# EAGLE library part AVRXDA32 (library microchip-special)
The AVR128DA28/32/48/64 microcontrollers of the AVR® DA family are using the AVR CPU with hardware multiplier, running at up to 24 MHz, with 128 KB of Flash, 16 KB of SRAM, and 512B of EEPROM in 28-, 32-, 48- or 64-pin packages. The AVR® DA family uses the latest technologies from Microchip Technology, with a flexible and low-power architecture including Event System, intelligent analog features, advanced digital peripherals and Peripheral Touch Controller (PTC).
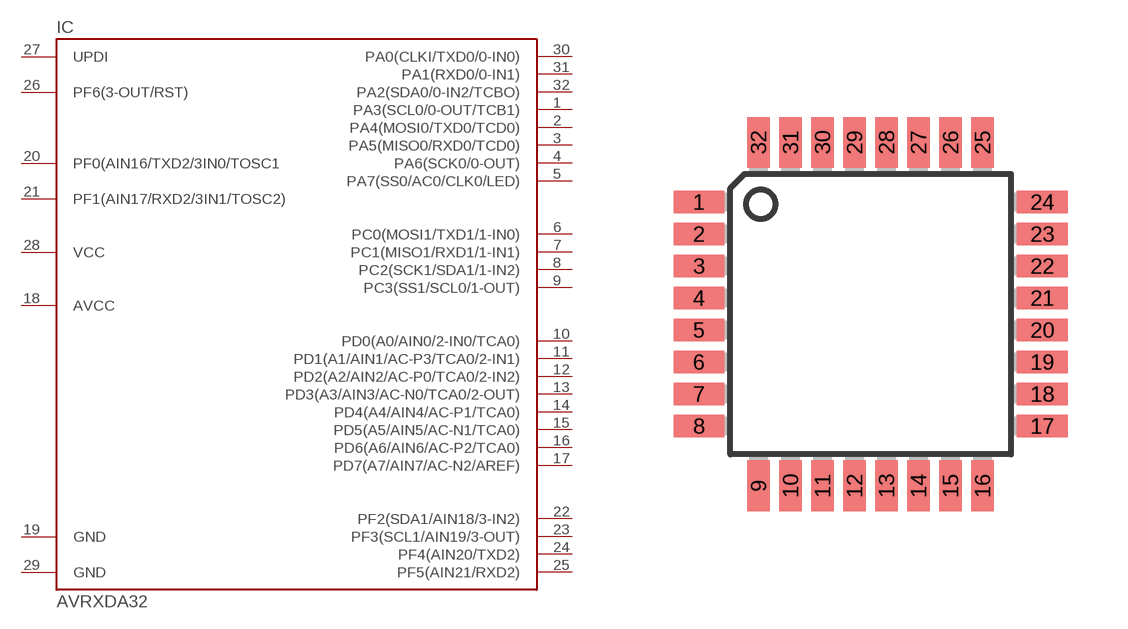
[diagram p20: symbol with the pads of TQFP32-08; footprint TQFP32-08]

Designator prefix IC

## AVRXDA32TQFP  [TQFP32-08]
1  PA3(SCL0/0-OUT/TCB1)
2  PA4(MOSI0/TXD0/TCD0)
3  PA5(MISO0/RXD0/TCD0)
4  PA6(SCK0/0-OUT)
5  PA7(SS0/AC0/CLK0/LED)
6  PC0(MOSI1/TXD1/1-IN0)
7  PC1(MISO1/RXD1/1-IN1)
8  PC2(SCK1/SDA1/1-IN2)
9  PC3(SS1/SCL0/1-OUT)
10  PD0(A0/AIN0/2-IN0/TCA0)
11  PD1(A1/AIN1/AC-P3/TCA0/2-IN1)
12  PD2(A2/AIN2/AC-P0/TCA0/2-IN2)
13  PD3(A3/AIN3/AC-N0/TCA0/2-OUT)
14  PD4(A4/AIN4/AC-P1/TCA0)
15  PD5(A5/AIN5/AC-N1/TCA0)
16  PD6(A6/AIN6/AC-P2/TCA0)
17  PD7(A7/AIN7/AC-N2/AREF)
18  AVCC  pas
19  GND  pwr
20  PF0(AIN16/TXD2/3IN0/TOSC1
21  PF1(AIN17/RXD2/3IN1/TOSC2)
22  PF2(SDA1/AIN18/3-IN2)
23  PF3(SCL1/AIN19/3-OUT)
24  PF4(AIN20/TXD2)
25  PF5(AIN21/RXD2)
26  PF6(3-OUT/RST)
27  UPDI
28  VCC  pwr
29  GND  pwr
30  PA0(CLKI/TXD0/0-IN0)
31  PA1(RXD0/0-IN1)
32  PA2(SDA0/0-IN2/TCBO)

## Footprint TQFP32-08 (pad centres in mm)
Thin Plasic Quad Flat Package Grid 0.8 mm
smd 1.27 x 0.559: 1 -4.293,2.8; 2 -4.293,2; 3 -4.293,1.2; 4 -4.293,0.4; 5 -4.293,-0.4; 6 -4.293,-1.2; 7 -4.293,-2; 8 -4.293,-2.8; 17 4.293,-2.8; 18 4.293,-2; 19 4.293,-1.2; 20 4.293,-0.4; 21 4.293,0.4; 22 4.293,1.2; 23 4.293,2; 24 4.293,2.8
smd 0.559 x 1.27: 9 -2.8,-4.293; 10 -2,-4.293; 11 -1.2,-4.293; 12 -0.4,-4.293; 13 0.4,-4.293; 14 1.2,-4.293; 15 2,-4.293; 16 2.8,-4.293; 25 2.8,4.293; 26 2,4.293; 27 1.2,4.293; 28 0.4,4.293; 29 -0.4,4.293; 30 -1.2,4.293; 31 -2,4.293; 32 -2.8,4.293